# Altium footprint library PcbLib1.PcbLib: 42 footprints (part 2 of 3)
Each footprint in its own frame and in the unit in brackets; x right, y up, seen from the top. Pads: shape width x height; smd on the part's side, far side on the other; paste and mask are expansions set on the pad; w line width, h text height; cw(c..) or ccw(c..) is an arc to the next point about the centre after c.
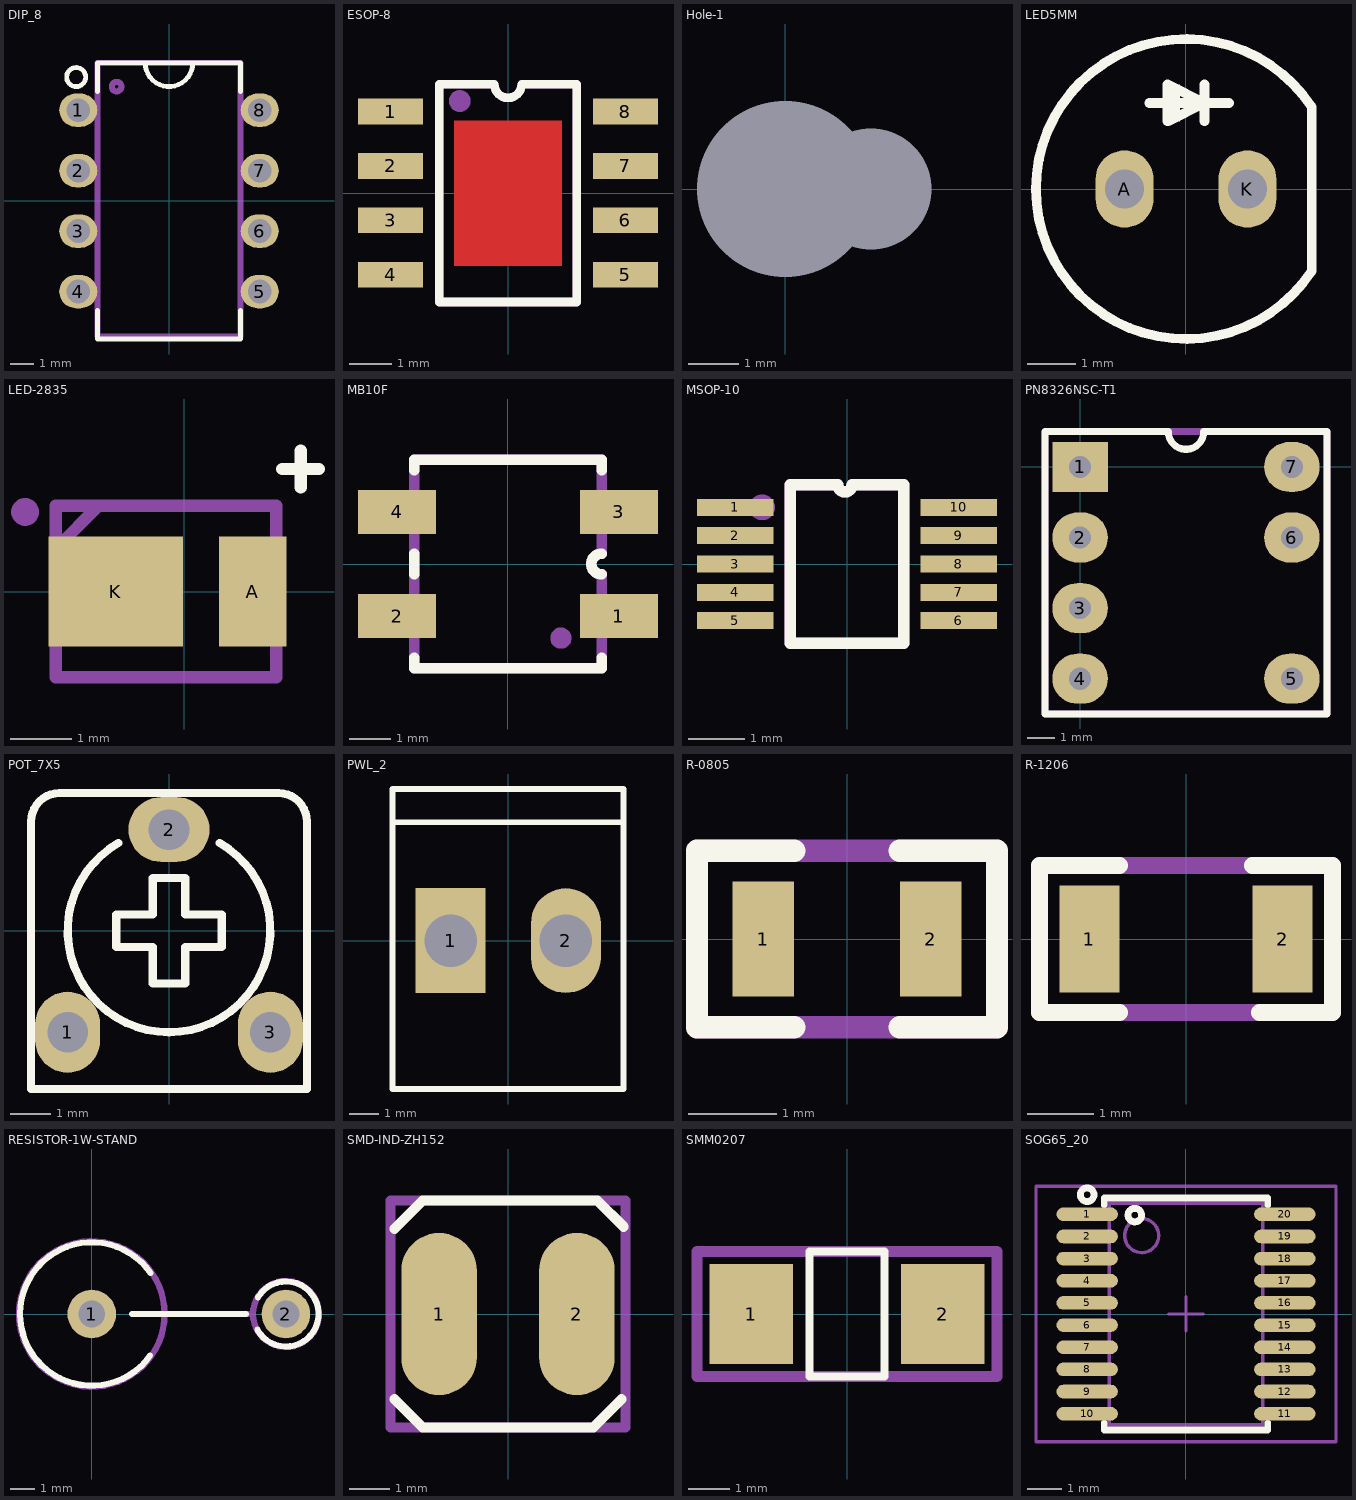
[diagram p1: the footprints below, top view; thin cyan lines are the x and y axes]

## DIP_8 [mm] "DIP, pitch 2.54mm, 300mil Width"
pads (8):
  oval 1.6x1.4 / inner round 1.4 / far side oval 2.2x1.4 hole 1: 1(-3.81,3.81) 2(-3.81,1.27) 3(-3.81,-1.27) 4(-3.81,-3.81) 5(3.81,-3.81) 6(3.81,-1.27) 7(3.81,1.27) 8(3.81,3.81)
Top Overlay:
  circle w0.2: c-3.9,5.2 r0.4
  lines w0.2: -3,-4.6 -3,-5.8 3,-5.8 3,-4.6 ; -3,4.6 -3,5.8 3,5.8 3,4.6 ; -1,5.8 ccw(c0,5.8) 1,5.8
Mechanical 29:
  circle w0.254: c-2.2,4.8 r0.2
  lines w0.254: -3,-5.7 3,-5.7 3,5.8 -3,5.8 -3,-5.7
  text ".Designaror" at 0.233,-1.8 h0.8
3D body "CircuitWorks-DIP8.step": height 4.19, standoff -2.67, extent -3.937,-5.7 3.937,5.73

## ESOP-8 [mm]
pads (8):
  rect 1.52x0.6 smd: 1(-2.74,1.905) 2(-2.74,0.635) 3(-2.74,-0.635) 4(-2.74,-1.905) 5(2.74,-1.905) 6(2.74,-0.635) 7(2.74,0.635) 8(2.74,1.905)
Top Layer:
  rectangle: -1.256,-1.701 1.256,1.701
Top Overlay:
  lines w0.2: -1.6,-2.54 1.6,-2.54 1.6,2.54 0.318,2.54 cw(c0,2.54) -0.318,2.54 -1.6,2.54 -1.6,-2.54
Top Paste:
  rectangle: -1.256,-1.701 1.256,1.701
Top Solder:
  rectangle: -1.4,-1.85 1.4,1.85
Mechanical 29:
  circle w0.254: c-1.125,2.15 r0.127
  lines w0.2: -1.6,-2.54 1.6,-2.54 1.6,2.54 0.318,2.54 cw(c0,2.542) -0.317,2.54 -1.6,2.54 -1.6,-2.54
  text ".Designator" at 0.238,-1.121 h1
3D body "SOP8.step": height 1.75, standoff 0, extent -3.1,-2.5 3.1,2.5

## Hole-1 [mm]
pads (2):
  round 0 hole 3.5 unplated: 0(0,0)
  round 0 hole 2.4 square unplated: 0(1.7,0)

## LED5MM [mm] "LED THD 5MM"
pads (2):
  oval 1.2x1.6 hole 0.8: A(-1.27,0) K(1.27,0)
Top Overlay:
  rectangle: -0.381,1.397 -0.127,2.159
  lines w0.2: -0.762,1.778 0.889,1.778 ; 0.381,1.397 0.381,2.159 ; 2.6,-1.7 2.6,1.7 ; 2.6,-1.688 cw(c0,0) 2.6,1.688 ; -0.381,1.397 -0.381,2.159 0.381,1.778 -0.381,1.397

## LED-2835 [mm]
pads (2):
  rect 1.1x1.8 smd: A(1.12,0)
  rect 2.2x1.8 smd: K(-1.12,0)
Top Overlay:
  lines w0.2: 1.6,2 2.2,2 ; 1.9,1.7 1.9,2.3
Mechanical 29:
  circle w0.254: c-2.6,1.3 r0.1
  lines w0.2: -2.1,0.7 -1.4,1.4 ; -1.4,1.4 -1.4,1.4 ; -2.1,-1.4 -2.1,1.4 1.5,1.4 1.5,-1.4 -0.5,-1.4 -2.1,-1.4 ; -1.6,1.4 -1.6,1.4
  text ".Designator" at -1.4,-0.367 h1
3D body "User Library-LED 2835.step": height 0.72, standoff 0, extent -2.038,-1.4 1.474,1.4

## MB10F [mm]
pads (4):
  rect 1.875x1.05 smd: 1(2.663,-1.25) 2(-2.662,-1.25) 3(2.663,1.25) 4(-2.662,1.25)
Top Overlay:
  lines w0.254: -2.25,-2.25 -2.25,-2.5 2.25,-2.5 2.25,-2.25 ; -2.25,-0.25 -2.25,0.25 ; -2.25,2.25 -2.25,2.5 2.25,2.5 2.25,2.25 ; 2.25,-0.25 cw(c2.25,0) 2.25,0.25
Mechanical 29:
  circle w0.254: c1.27,-1.778 r0.127
  lines w0.254: -2.25,-2.5 2.25,-2.5 2.25,-0.25 cw(c2.25,0) 2.25,0.25 2.25,2.5 -2.25,2.5 -2.25,-2.5
  text ".Designator" at -0.276,1.041 h1
3D body "MB10F TMBS.step": height 1.62, standoff 0.01, extent -3.463,-2.4 3.338,2.5

## MSOP-10 [mm]
pads (10):
  rect 1.35x0.3 smd mask+0.05: 1(-1.975,1) 2(-1.975,0.5) 3(-1.975,0) 4(-1.975,-0.5) 5(-1.975,-1) 6(1.975,-1) 7(1.975,-0.5) 8(1.975,0) 9(1.975,0.5) 10(1.975,1)
Top Overlay:
  lines w0.2: 0.962,1.4 0.087,1.4 cw(c-0.038,1.4) -0.162,1.4 -1,1.4 -1,-1.4 1,-1.4 1,1.4
Mechanical 29:
  circle w0.254: c-1.5,1 r0.1
  lines w0.2: 0.962,1.4 0.087,1.4 cw(c-0.038,1.4) -0.162,1.4 -1,1.4 -1,-1.4 1,-1.4 1,1.4
  text ".Designator" at 0.233,-1 h0.8
3D body "User Library-msop-10.step": height 1.15, standoff 0, extent -2.45,-1.5 2.45,1.5

## PN8326NSC-T1 [mm]
pads (7):
  rect 2x1.8 hole 0.8: 1(0,0)
  oval 2x1.8 hole 0.8: 2(0,-2.54) 3(0,-5.08) 4(0,-7.62) 5(7.62,-7.62) 6(7.62,-2.54) 7(7.62,0)
Top Overlay:
  lines w0.254: -1.27,-8.89 -1.27,1.27 3.175,1.27 ccw(c3.81,1.27) 4.445,1.27 8.89,1.27 8.89,-8.89 -1.27,-8.89
Mechanical 29:
  circle w0.254: c-0.381,0.508 r0.127
  lines w0.254: -1.27,-8.89 8.89,-8.89 8.89,1.27 3.175,1.27 -1.27,1.27 -1.27,-8.89
  text ".Designator" at 2.794,-4.493 h1
3D body "pn8326.STEP": height 4.6, standoff -1.3, extent 0.135,-8.438 7.485,0.815

## POT_7X5 [mm] "POT, TRIM, 7.5X5.0mm, pitch: 5.0mm"
pads (3):
  oval 1.6x2 hole 1: 1(-2.5,-2.5) 3(2.5,-2.5)
  oval 2x1.6 hole 1: 2(0,2.5)
Top Overlay:
  lines w0.2: -1.25,2.165 ccw(c0,0) 1.25,2.165 ; -3.4,-3.9 3.4,-3.9 3.4,2.7 ccw(c2.7,2.7) 2.7,3.4 -2.7,3.4 ccw(c-2.7,2.7) -3.4,2.7 -3.4,-3.9 ; -1.3,-0.4 -0.4,-0.4 -0.4,-1.3 0.4,-1.3 0.4,-0.4 1.3,-0.4 1.3,0.4 0.4,0.4 0.4,1.3 -0.4,1.3 -0.4,0.4 -1.3,0.4 -1.3,-0.4
3D body "User Library-Pot - RES_VAR1.STEP": height 7, standoff -3.9, extent -3.25,-3.775 3.25,3.275

## PWL_2 [mm] "Connector; Header; 2 Position"
height 0.001
pads (2):
  rect 2.4x3.6 hole 1.8: 1(-1.98,0)
  oval 2.4x3.6 hole 1.8: 2(1.98,0)
Top Overlay:
  lines w0.2: -3.98,4.064 3.96,4.064 ; -3.98,-5.1 -3.98,5.207 3.96,5.207 3.96,-5.1 -3.98,-5.1
3D body "PWL-2.stp": height 13.5, standoff -4, extent -3.96,-5 3.96,5

## R-0805 [mm]
pads (2):
  rect 0.7x1.3 smd: 1(-0.95,0) 2(0.95,0)
Top Overlay:
  lines w0.254: -0.6,-1 -1.7,-1 -1.7,1 -0.6,1 ; 0.6,-1 1.7,-1 1.7,1 0.6,1
Mechanical 29:
  lines w0.254: -1.7,-1 1.7,-1 1.7,1 -1.7,1 -1.7,-1
  text ".Designator" at -0.996,-0.413 h1
3D body "Res0805.step": height 0.6, standoff 0, extent -1,-0.625 1,0.625

## R-1206 [mm]
pads (2):
  rect 0.9x1.6 smd: 1(-1.45,0) 2(1.45,0)
Top Overlay:
  lines w0.254: -1,-1.1 -2.2,-1.1 -2.2,1.1 -1,1.1 ; 1,1.1 2.2,1.1 2.2,-1.1 1.1,-1.1
Mechanical 29:
  lines w0.254: -2.2,-1.1 2.2,-1.1 2.2,1.1 -2.2,1.1 -2.2,-1.1
  text ".Designator" at -0.996,-0.163 h1
3D body "Res1206.step": height 0.6, standoff 0, extent -1.575,-0.8 1.625,0.8

## RESISTOR-1W-STAND [mm]
pads (2):
  round 2 hole 1.1: 1(0,0) 2(8.001,0)
Top Overlay:
  lines w0.254: 1.651,0 6.35,0 ; 2.404,-1.717 cw(c0,0) 2.42,1.694 ; 6.822,-0.642 ccw(c8.001,0) 6.849,0.69
Mechanical 29:
  circle w0.254: c0,0 r3
  circle w0.254: c8.001,0 r1.361
  lines w0.254: 3,0 6.6,0
  text ".Designator" at 3.454,0.487 h1
3D body "res1-2w.STEP": height 13.41, standoff -1, extent -2.804,-2.803 8.58,2.804

## SMD-IND-ZH152 [mm]
pads (2):
  oval 1.86x4 smd: 1(-1.7,0) 2(1.7,0)
Top Overlay:
  lines w0.254: -2.8,-2.1 -2.1,-2.8 -1.7,-2.8 1.7,-2.8 2.1,-2.8 2.8,-2.1 ; -2.8,2.1 -2.1,2.8 -1.7,2.8 1.7,2.8 2.2,2.8 2.85,2.15
Mechanical 29:
  lines w0.254: -2.9,-2.8 -2.9,2.8 2.9,2.8 2.9,-2.8 -2.9,-2.8
  text ".Designator" at -1,-0.367 h1
3D body "Part5.STEP": height 4.45, standoff 0, extent -2.789,-2.63 2.789,2.63

## SMM0207 [mm]
pads (2):
  rect 2x2.4 smd: 1(-2.3,0) 2(2.3,0)
Top Overlay:
  lines w0.2: -0.9,-1.5 -0.9,1.5 0.9,1.5 0.9,-1.5 -0.9,-1.5
Mechanical 29:
  lines w0.254: -3.6,-1.5 3.6,-1.5 3.6,1.5 -3.6,1.5 -3.6,-1.5
  text ".Designator" at -1.7,-0.467 h1
3D body "Part6.STEP": height 2.2, standoff 0, extent -2.9,-1.1 2.9,1.1

## SOG65_20 [mm] "PW TSSOP (TI), MO-153-AC (JEDEC), 20Lead, pitch: 0.65mm, 6.5x4.4x1.2mm"
height 1.2
pads (20):
  oval 1.8x0.4 smd mask+0.075: 1(-2.9,2.925) 2(-2.9,2.275) 3(-2.9,1.625) 4(-2.9,0.975) 5(-2.9,0.325) 6(-2.9,-0.325) 7(-2.9,-0.975) 8(-2.9,-1.625) 9(-2.9,-2.275) 10(-2.9,-2.925) 11(2.9,-2.925) 12(2.9,-2.275) 13(2.9,-1.625) 14(2.9,-0.975) 15(2.9,-0.325) 16(2.9,0.325) 17(2.9,0.975) 18(2.9,1.625) 19(2.9,2.275) 20(2.9,2.925)
Top Overlay:
  circle w0.2: c-2.9,3.5 r0.2
  circle w0.2: c-1.5,2.9 r0.2
  lines w0.2: -2.4,-3.2 -2.4,-3.4 2.4,-3.4 2.4,-3.2 ; -2.4,3.2 -2.4,3.4 2.4,3.4 2.4,3.2
Mechanical 13:
  circle w0.1: c-1.3,2.3 r0.5
  lines w0.1: -2.25,-3.25 -2.25,3.25 2.25,3.25 2.25,-3.25 -2.25,-3.25
Mechanical 15:
  lines w0.1: -0.5,0 0.5,0 ; 0,-0.5 0,0.5 ; -4.4,-3.75 -4.4,3.75 4.4,3.75 4.4,-3.75 -4.4,-3.75
3D body "User Library-TSSOP-20-2.STEP": height 1.2, standoff 0, extent -3.2,-3.25 3.2,3.25